# EAGLE library part TS5A22364 (library ICs)
TS5A22364
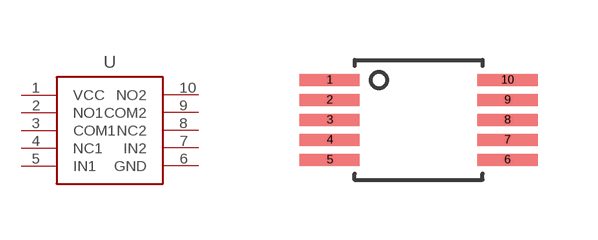
[diagram p13: symbol with the pads of VSSOP10; footprint VSSOP10]

Designator prefix -

## TS5A22364  [VSSOP10]
1  VCC  pwr
2  NO1
3  COM1
4  NC1
5  IN1
6  GND  sup
7  IN2
8  NC2
9  COM2
10  NO2

## Footprint VSSOP10 (pad centres in mm)
VSSOP 10-pin Package
smd 1.5 x 0.3: 1 -2.225,1; 2 -2.225,0.5; 3 -2.225,0; 4 -2.225,-0.5; 5 -2.225,-1; 6 2.225,-1; 7 2.225,-0.5; 8 2.225,0; 9 2.225,0.5; 10 2.225,1